# Altium footprint library 2EDGRC-5.0-08P-14-00AH.PcbLib: 1 footprints
Each footprint in its own frame and in the unit in brackets; x right, y up, seen from the top. Pads: shape width x height; smd on the part's side, far side on the other; paste and mask are expansions set on the pad; w line width, h text height; cw(c..) or ccw(c..) is an arc to the next point about the centre after c.
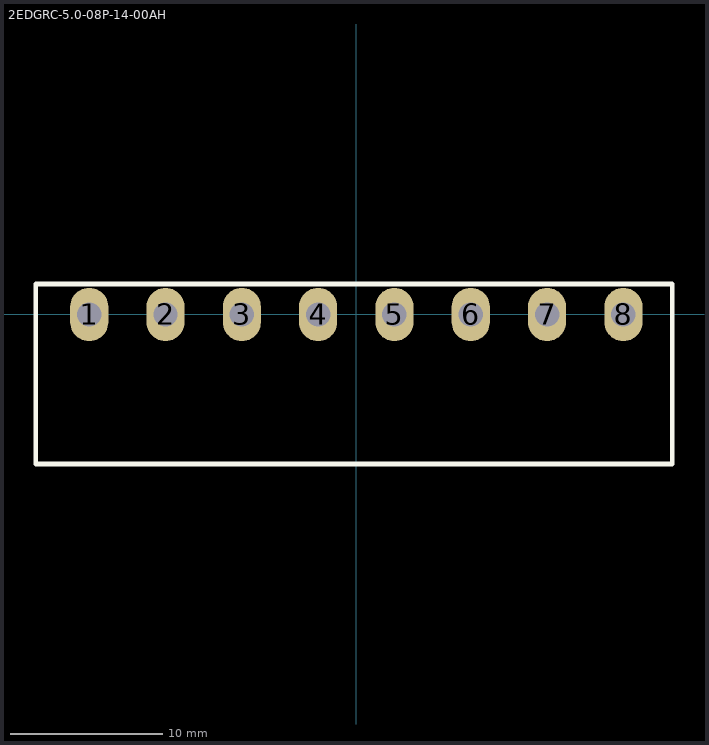
[diagram p0: the footprint, top view; thin cyan lines are the x and y axes]

## 2EDGRC-5.0-08P-14-00AH [mm]
pads (8):
  oval 2.5x3.5 hole 1.6: 1(-17.5,0) 2(-12.5,0) 3(-7.5,0) 4(-2.5,0) 5(2.5,0) 6(7.5,0) 7(12.5,0) 8(17.5,0)
Top Overlay:
  lines w0.3: -21,-9.8 20.7,-9.8 20.7,2 1.1,2 -21,2 -21,-9.8
3D body: height 8.4, standoff -3.45, extent -21.2,-10 20.8,2